# EAGLE library part K4EBP* (library relay-mod)
UNIQUELY DESIGNED RELAY NAiS Source: http://www.mew-europe.com/.. en_ds_61013_0000.pdf
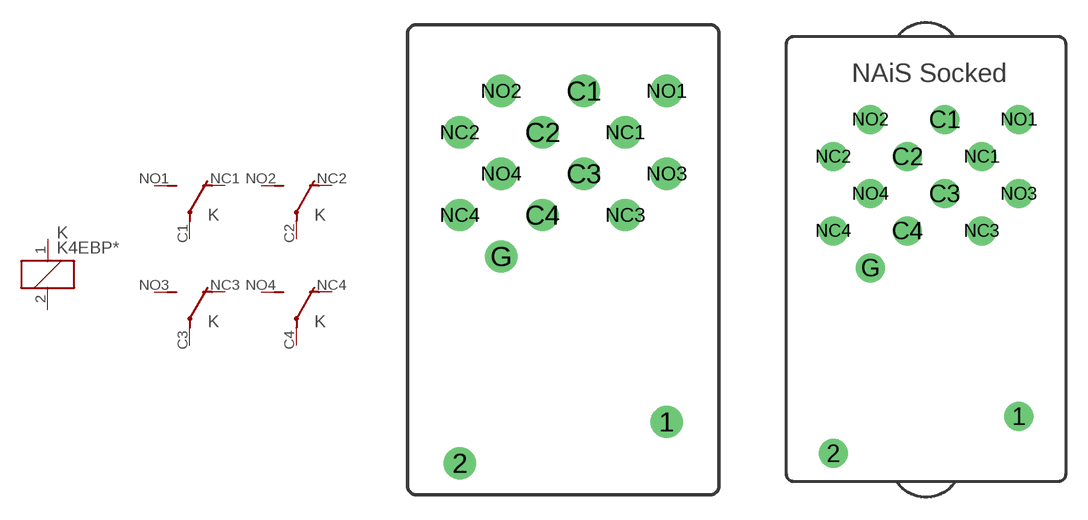
[diagram p64: symbol with the pads of K4EBP; footprints K4EBP, K4-PS]

Designator prefix K; gates _=K 1=U 2=U 3=U 4=U

## K4EBP-110V-1 (OC_FARNELL: unknown; OC_NEWARK: unknown), K4EBP-12V-1 (OC_FARNELL: unknown; OC_NEWARK: unknown), K4EBP-24V-1 (OC_FARNELL: unknown; OC_NEWARK: unknown), K4EBP-28V-1 (OC_FARNELL: unknown; OC_NEWARK: unknown), K4EBP-3V-1 (OC_FARNELL: unknown; OC_NEWARK: unknown), K4EBP-48V-1 (OC_FARNELL: unknown; OC_NEWARK: unknown), K4EBP-6V-1 (OC_FARNELL: unknown; OC_NEWARK: unknown)  [K4EBP]
1  _:1  pas
2  _:2  pas
C1  1:P  pas
C2  2:P  pas
C3  3:P  pas
C4  4:P  pas
NC1  1:O  pas
NC2  2:O  pas
NC3  3:O  pas
NC4  4:O  pas
NO1  1:S  pas
NO2  2:S  pas
NO3  3:S  pas
NO4  4:S  pas

## K4EBPS (OC_FARNELL: unknown; OC_NEWARK: unknown)  [K4-PS]
Pads as for K4EBP

## Footprint K4EBP (pad centres in mm)
UNIQUELY DESIGNED RELAY NAiS Source: http://www.mew-europe.com/.. en_ds_61013_0000.pdf
drill 1.3: 1 6.25,-6.25; 2 -6.25,-8.75; C1 1.25,13.75; C2 -1.25,11.25; C3 1.25,8.75; C4 -1.25,6.25; G -3.75,3.75; NC1 3.75,11.25; NC2 -6.25,11.25; NC3 3.75,6.25; NC4 -6.25,6.25; NO1 6.25,13.75; NO2 -3.75,13.75; NO3 6.25,8.75; NO4 -3.75,8.75

## Footprint K4-PS (pad centres in mm)
RELAY Socked NAiS Source: http://www.mew-europe.com/.. en_ds_61013_0000.pdf
drill 1.3: 1 6.25,-6.25; 2 -6.25,-8.75; C1 1.25,13.75; C2 -1.25,11.25; C3 1.25,8.75; C4 -1.25,6.25; G -3.75,3.75; NC1 3.75,11.25; NC2 -6.25,11.25; NC3 3.75,6.25; NC4 -6.25,6.25; NO1 6.25,13.75; NO2 -3.75,13.75; NO3 6.25,8.75; NO4 -3.75,8.75